# EAGLE library part IN-12B (library 0-nixies-russian)
IN-12B: medium numeric topview nixie tube
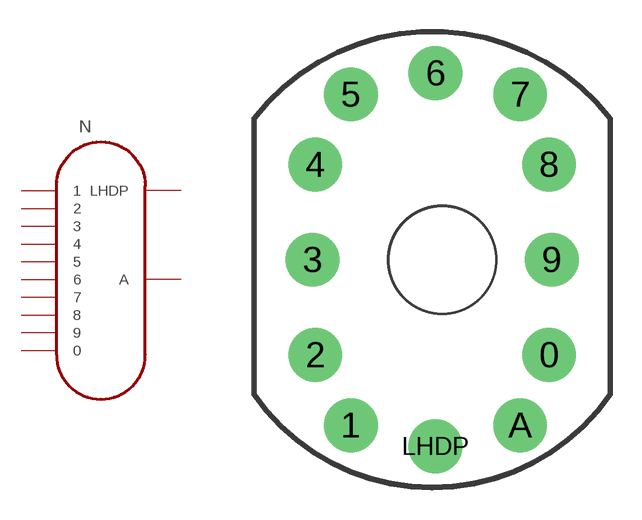
[diagram p7: symbol with the pads of IN-12; footprint IN-12]

Designator prefix N

## IN-12B  [IN-12]
0  0
1  1
2  2
3  3
4  4
5  5
6  6
7  7
8  8
9  9
A  A
LHDP  LHDP

## Footprint IN-12 (pad centres in mm)
May be used with socket: SK-136
drill 1.1 pad 2.54 round: 0 5.048,-4.5; 1 -4.317,-7.817; 2 -6,-4.5; 3 -6.127,0; 4 -6,4.5; 5 -4.317,7.817; 6 -0.318,8.818; 7 3.683,7.817; 8 5.048,4.5; 9 5.175,0; A 3.683,-7.817; LHDP -0.318,-8.818
hole 5 at 0,0